# Altium schematic symbol library Schlib1.SchLib: 2 symbols
Pins are listed as number, name and electrical type; pins without a type are passive.

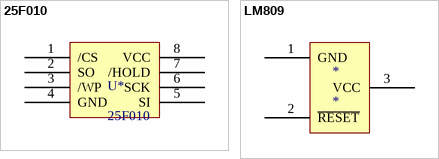
[diagram p0: symbols 25F010 to LM809]

## 25F010
designator U*
pins: 1 /CS, 2 SO, 3 /WP, 4 GND, 5 SI, 6 SCK, 7 /HOLD, 8 VCC

## LM809
designator *
pins: 1 GND, 2 ~{RESET}, 3 VCC